# Altium footprint library PCB - LEADED - SOP - ANALOG MSOP-8 RM-8.PCBLIB: 1 footprints
Each footprint in its own frame and in the unit in brackets; x right, y up, seen from the top. Pads: shape width x height; smd on the part's side, far side on the other; paste and mask are expansions set on the pad; w line width, h text height; cw(c..) or ccw(c..) is an arc to the next point about the centre after c.
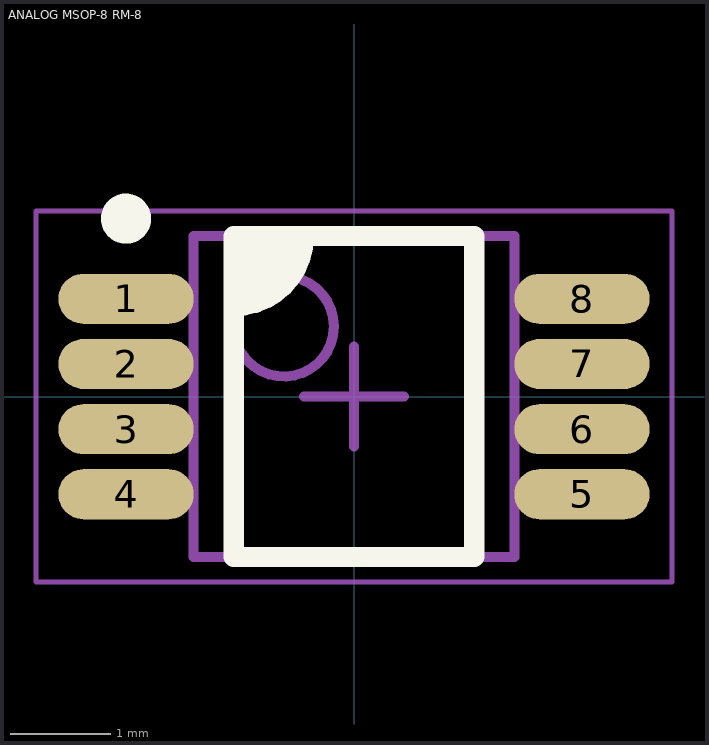
[diagram p0: the footprint, top view; thin cyan lines are the x and y axes]

## ANALOG MSOP-8 RM-8 [mm]
height 1.1
pads (8):
  oval 1.35x0.5 smd mask+0.05: 1(-2.275,0.975) 2(-2.275,0.325) 3(-2.275,-0.325) 4(-2.275,-0.975) 5(2.275,-0.975) 6(2.275,-0.325) 7(2.275,0.325) 8(2.275,0.975)
Top Overlay:
  circle w0.25: c-2.275,1.775 r0.125
  region: -1.2,1.6 -0.5,1.6 -0.5,1.3 -0.9,0.9 -1.2,0.9
  lines w0.2: -1.2,0.9 ccw(c-1.2,1.6) -0.5,1.6 ; -1.2,-1.6 -1.2,1.6 1.2,1.6 1.2,-1.6 -1.2,-1.6
Top Assembly:
  circle w0.1: c-0.7,0.7 r0.5
  lines w0.1: -1.6,-1.6 1.6,-1.6 1.6,1.6 -1.6,1.6 -1.6,-1.6
Top Courtyard:
  lines w0.05: -3.175,-1.85 -3.175,1.85 3.175,1.85 3.175,-1.85 -3.175,-1.85
Top Component Center:
  lines w0.1: -0.5,0 0.5,0 ; 0,-0.5 0,0.5
3D body "MSOP-8.STEP": height 1.1, standoff 0, extent -2.46,-1.5 2.461,1.5